# Altium schematic symbol library LED_Blue.SchLib: 1 symbol
Pins are listed as number, name and electrical type; pins without a type are passive.

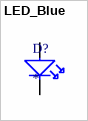
[diagram p0: symbol LED_Blue]

## LED_Blue
designator D?
pins: A, C